# Altium schematic symbol library BSM-3_next_generation_Library.SchLib: 93 symbols
Pins are listed as number, name and electrical type; pins without a type are passive.

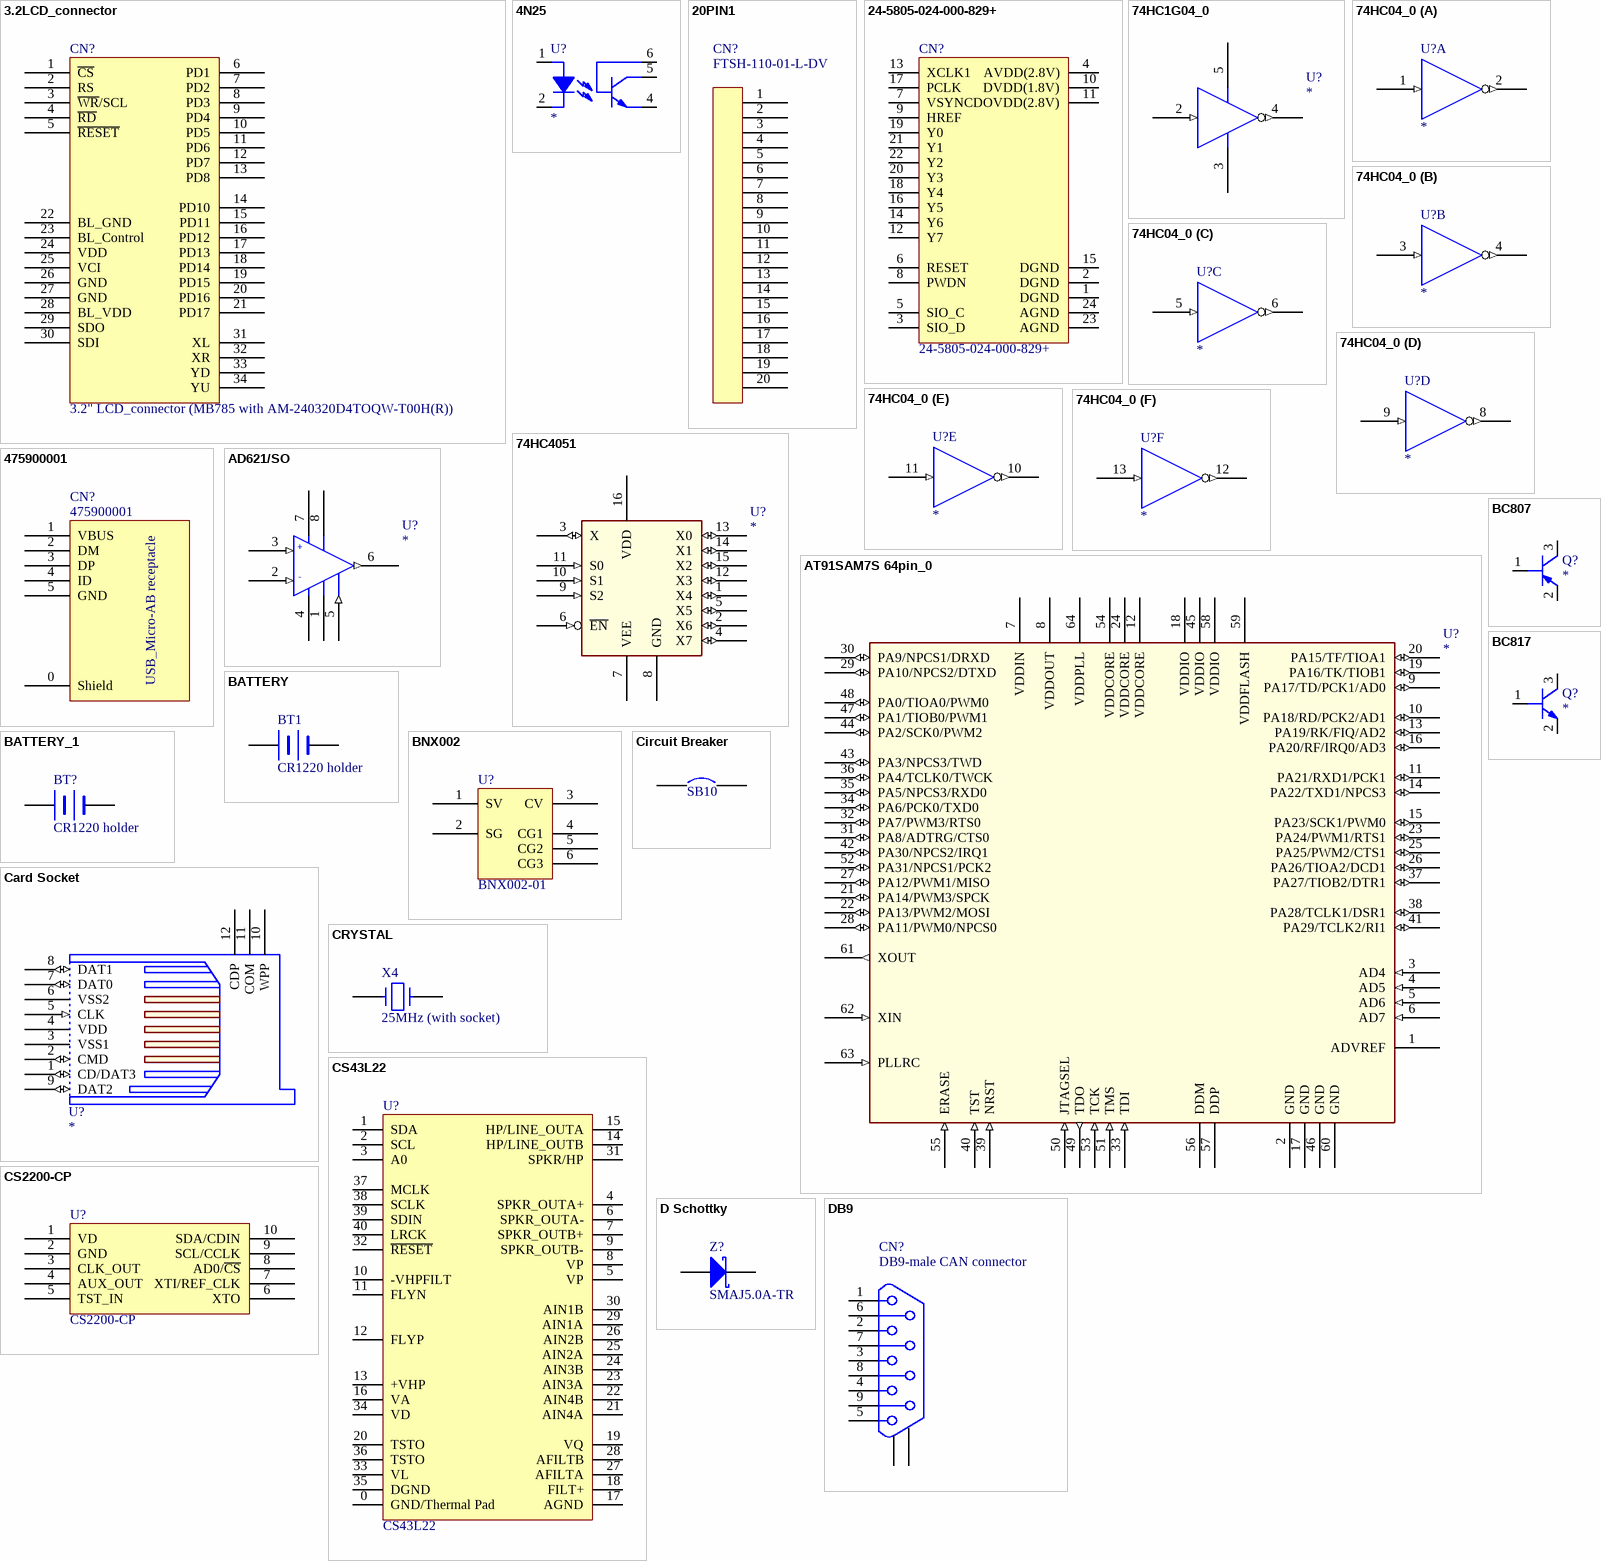
[diagram p0: symbols 3.2LCD_connector to DB9]

## 3.2LCD_connector
designator CN?, comment 3.2" LCD_connector (MB785 with AM-240320D4TOQW-T00H(R))
footprint Model Name (Footprint not found)
footprint AM240*320AA
pins: 1 ~{CS}, 2 RS, 3 ~{WR}/SCL, 4 ~{RD}, 5 ~{RESET}, 6 PD1, 7 PD2, 8 PD3, 9 PD4, 10 PD5, 11 PD6, 12 PD7, 13 PD8, 14 PD10, 15 PD11, 16 PD12, 17 PD13, 18 PD14, 19 PD15, 20 PD16, 21 PD17, 22 BL_GND, 23 BL_Control, 24 VDD, 25 VCI, 26 GND, 27 GND, 28 BL_VDD, 29 SDO, 30 SDI, 31 XL, 32 XR, 33 YD, 34 YU

## 4N25
designator U?
pins: 1, 2, 4, 5, 6

## 20PIN1
designator CN?, comment FTSH-110-01-L-DV
footprint IDC20L (Footprint not found)
footprint IDC20S
footprint FTSH-110-01-L-DV
pins: 1, 2, 3, 4, 5, 6, 7, 8, 9, 10, 11, 12, 13, 14, 15, 16, 17, 18, 19, 20
2 alternate drawings of the same symbol

## 24-5805-024-000-829+
designator CN?
footprint Model Name (Footprint not found)
footprint 24-5805-024-000-829
pins: 1 DGND, 2 DGND, 3 SIO_D, 4 AVDD(2.8V), 5 SIO_C, 6 RESET, 7 VSYNC, 8 PWDN, 9 HREF, 10 DVDD(1.8V), 11 DOVDD(2.8V), 12 Y7, 13 XCLK1, 14 Y6, 15 DGND, 16 Y5, 17 PCLK, 18 Y4, 19 Y0, 20 Y3, 21 Y1, 22 Y2, 23 AGND, 24 AGND

## 74HC1G04_0
designator U?
pins: 1 NC (power) hidden to NC, 2 A (in), 3 GND (power), 4 Y (out), 5 VCC (power)

## 74HC04_0
designator U?
part A pins: 1 A (in), 2 Y (out), 7 GND (power) hidden to GND, 14 VCC (power) hidden to VCC
part B pins: 3 A (in), 4 Y (out), 7 GND (power) hidden to GND, 14 VCC (power) hidden to VCC
part C pins: 5 A (in), 6 Y (out), 7 GND (power) hidden to GND, 14 VCC (power) hidden to VCC
part D pins: 7 GND (power) hidden to GND, 8 Y (out), 9 A (in), 14 VCC (power) hidden to VCC
part E pins: 7 GND (power) hidden to GND, 10 Y (out), 11 A (in), 14 VCC (power) hidden to VCC
part F pins: 7 GND (power) hidden to GND, 12 Y (out), 13 A (in), 14 VCC (power) hidden to VCC

## 74HC4051
designator U?
pins: 1 X4 (io), 2 X6 (io), 3 X (io), 4 X7 (io), 5 X5 (io), 6 ~{EN} (in), 7 VEE (power), 8 GND (power), 9 S2 (in), 10 S1 (in), 11 S0 (in), 12 X3 (io), 13 X0 (io), 14 X1 (io), 15 X2 (io), 16 VDD (power)

## 475900001
designator CN?
footprint Model Name (Footprint not found)
footprint USB-MICRO-AB
pins: 0 Shield, 1 VBUS, 2 DM, 3 DP, 4 ID, 5 GND
text: USB_Micro-AB receptacle

## AD621/SO
designator U?
pins: 1 G10/100, 2 -IN (in), 3 +IN (in), 4 -VCC (power), 5 REF (in), 6 OUT (out), 7 +VCC (power), 8 G10/100
text: +; -

## AT91SAM7S 64pin_0
designator U?
pins: 1 ADVREF (power), 2 GND (power), 3 AD4 (in), 4 AD5 (in), 5 AD6 (in), 6 AD7 (in), 7 VDDIN (power), 8 VDDOUT (power), 9 PA17/TD/PCK1/AD0 (io), 10 PA18/RD/PCK2/AD1 (io), 11 PA21/RXD1/PCK1 (io), 12 VDDCORE (power), 13 PA19/RK/FIQ/AD2 (io), 14 PA22/TXD1/NPCS3 (io), 15 PA23/SCK1/PWM0 (io), 16 PA20/RF/IRQ0/AD3 (io), 17 GND (power), 18 VDDIO (power), 19 PA16/TK/TIOB1 (io), 20 PA15/TF/TIOA1 (io), 21 PA14/PWM3/SPCK (io), 22 PA13/PWM2/MOSI (io), 23 PA24/PWM1/RTS1 (io), 24 VDDCORE (power), 25 PA25/PWM2/CTS1 (io), 26 PA26/TIOA2/DCD1 (io), 27 PA12/PWM1/MISO (io), 28 PA11/PWM0/NPCS0 (io), 29 PA10/NPCS2/DTXD (io), 30 PA9/NPCS1/DRXD (io), 31 PA8/ADTRG/CTS0 (io), 32 PA7/PWM3/RTS0 (io), 33 TDI (in), 34 PA6/PCK0/TXD0 (io), 35 PA5/NPCS3/RXD0 (io), 36 PA4/TCLK0/TWCK (io), 37 PA27/TIOB2/DTR1 (io), 38 PA28/TCLK1/DSR1 (io), 39 NRST (in), 40 TST (in), 41 PA29/TCLK2/RI1 (io), 42 PA30/NPCS2/IRQ1 (io), 43 PA3/NPCS3/TWD (io), 44 PA2/SCK0/PWM2 (io), 45 VDDIO (power), 46 GND (power), 47 PA1/TIOB0/PWM1 (io), 48 PA0/TIOA0/PWM0 (io), 49 TDO (out), 50 JTAGSEL (in), 51 TMS (in), 52 PA31/NPCS1/PCK2 (io), 53 TCK (in), 54 VDDCORE (power), 55 ERASE (in), 56 DDM, 57 DDP, 58 VDDIO (power), 59 VDDFLASH (power), 60 GND (power), 61 XOUT (out), 62 XIN (in), 63 PLLRC (in), 64 VDDPLL (power)

## BATTERY
designator BT1, comment CR1220 holder
Battery
footprint BATT (Footprint not found)
footprint LI1220_1
pins: 1 +, 2 -
2 alternate drawings of the same symbol

## BATTERY_1
designator BT?, comment CR1220 holder
Battery
footprint BATT (Footprint not found)
footprint LI1220_1
pins: 1 +, 2 -
2 alternate drawings of the same symbol

## BC807
designator Q?
pins: 1 B, 2 E, 3 C

## BC817
designator Q?
pins: 1 B, 2 E, 3 C

## BNX002
designator U?, comment BNX002-01
footprint BNX001 (Footprint not found)
pins: 1 SV, 2 SG, 3 CV, 4 CG1, 5 CG2, 6 CG3

## Card Socket
designator U?
pins: 1 CD/DAT3 (io), 2 CMD (io), 3 VSS1 (power), 4 VDD (power), 5 CLK (in), 6 VSS2 (power), 7 DAT0 (io), 8 DAT1 (io), 9 DAT2 (io), 10 WPP, 11 COM, 12 CDP

## Circuit Breaker
designator SB10
Circuit Breaker; Published: 24-Mar-1999; Revision: July-2002: Re-released for DXP Platform.; Publisher: Altium Limited
footprint SPST-2 (Circuit Breaker; 2 Leads)
footprint JP2_SMD
pins: 1, 2

## CRYSTAL
designator X4, comment 25MHz (with socket)
Crystal
footprint XTAL1 (Footprint not found)
footprint XTAL_socket
pins: 1, 2
2 alternate drawings of the same symbol

## CS43L22
designator U?
footprint QFN40 (Footprint not found)
footprint QFN40(6*6)
pins: 0 GND/Thermal Pad, 1 SDA, 2 SCL, 3 A0, 4 SPKR_OUTA+, 5 VP, 6 SPKR_OUTA-, 7 SPKR_OUTB+, 8 VP, 9 SPKR_OUTB-, 10 -VHPFILT, 11 FLYN, 12 FLYP, 13 +VHP, 14 HP/LINE_OUTB, 15 HP/LINE_OUTA, 16 VA, 17 AGND, 18 FILT+, 19 VQ, 20 TSTO, 21 AIN4A, 22 AIN4B, 23 AIN3A, 24 AIN3B, 25 AIN2A, 26 AIN2B, 27 AFILTA, 28 AFILTB, 29 AIN1A, 30 AIN1B, 31 SPKR/HP, 32 ~{RESET}, 33 VL, 34 VD, 35 DGND, 36 TSTO, 37 MCLK, 38 SCLK, 39 SDIN, 40 LRCK

## CS2200-CP
designator U?
pins: 1 VD, 2 GND, 3 CLK_OUT, 4 AUX_OUT, 5 TST_IN, 6 XTO, 7 XTI/REF_CLK, 8 AD0/~{CS}, 9 SCL/CCLK, 10 SDA/CDIN

## D Schottky
designator Z?, comment SMAJ5.0A-TR
Schottky Diode; Code - JEDEC: DO-214-AA; Published: 8-Jun-2000; Revision: July-2002: Re-released for DXP Platform.; Publisher: Altium Limited
footprint 1R1C (Footprint not found)
pins: 1 A, 2 K

## DB9
designator CN?, comment DB9-male CAN connector
footprint DB9/M (Footprint not found)
pins: 0, 0 10, 1, 2, 3, 4, 5, 6, 7, 8, 9
2 alternate drawings of the same symbol

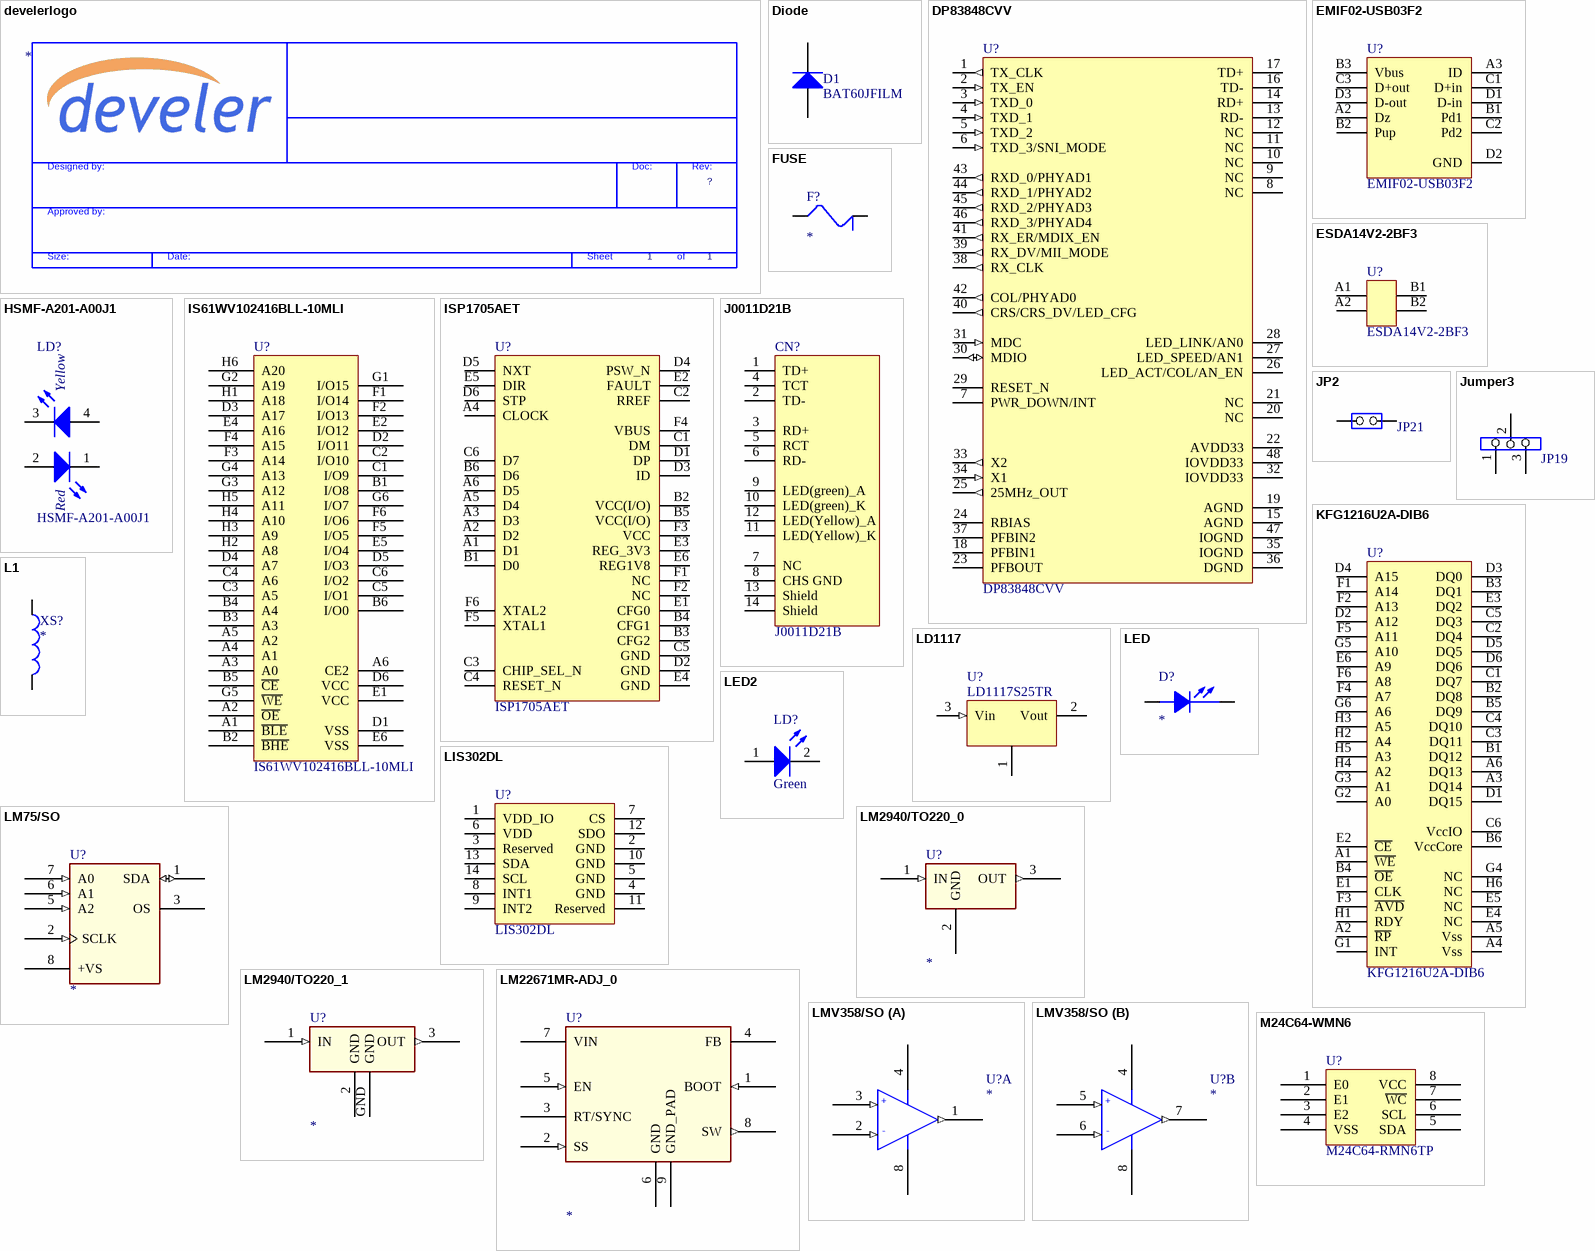
[diagram p1: symbols develerlogo to M24C64-WMN6]

## develerlogo
designator *  Page Count: 1  (graphical)
Page Number: 1; RevCode: ?
text: Designed by:; Doc:; Rev:; Approved by:; Size:; Date:; Sheet; of

## Diode
designator D1, comment BAT60JFILM
Default Diode; Code - JEDEC: DO-214-AB; Published: 8-Jun-2000; Revision: July-2002: Re-released for DXP Platform.; Publisher: Altium Limited
footprint DSO-C2/X3.3 (DO-214-AB/SMC; 2 C-Bend Leads; Body 7.9 x 5.9 mm, inc. leads (LxW))
simulation model DIODE (Diode)
signal-integrity model Diode
footprint SOD-323
pins: 1 A, 2 K

## DP83848CVV
designator U?
footprint LQFP48 (Footprint not found)
pins: 1 TX_CLK (out), 2 TX_EN (in), 3 TXD_0 (in), 4 TXD_1 (in), 5 TXD_2 (in), 6 TXD_3/SNI_MODE (in), 7 PWR_DOWN/INT, 8 NC, 9 NC, 10 NC, 11 NC, 12 NC, 13 RD-, 14 RD+, 15 AGND, 16 TD-, 17 TD+, 18 PFBIN1, 19 AGND, 20 NC, 21 NC, 22 AVDD33, 23 PFBOUT, 24 RBIAS, 25 25MHz_OUT (out), 26 LED_ACT/COL/AN_EN, 27 LED_SPEED/AN1, 28 LED_LINK/AN0, 29 RESET_N, 30 MDIO (io), 31 MDC (in), 32 IOVDD33, 33 X2 (out), 34 X1 (in), 35 IOGND, 36 DGND, 37 PFBIN2, 38 RX_CLK (out), 39 RX_DV/MII_MODE (out), 40 CRS/CRS_DV/LED_CFG (out), 41 RX_ER/MDIX_EN (out), 42 COL/PHYAD0 (out), 43 RXD_0/PHYAD1 (out), 44 RXD_1/PHYAD2 (out), 45 RXD_2/PHYAD3 (out), 46 RXD_3/PHYAD4 (out), 47 IOGND, 48 IOVDD33

## EMIF02-USB03F2
designator U?
footprint Flip Chip (Footprint not found)
footprint FlipChip(11)
pins: A2 Dz, A3 ID, B1 Pd1, B2 Pup, B3 Vbus, C1 D+in, C2 Pd2, C3 D+out, D1 D-in, D2 GND, D3 D-out

## ESDA14V2-2BF3
designator U?
pins: A1, A2, B1, B2

## FUSE
designator F?
pins: 1, 2

## HSMF-A201-A00J1
designator LD?
pins: 1 RED_cathode, 2 Red_anode, 3 YellowGreen_cathode, 4 YellowGreen_anode
text: Yellow; Red

## IS61WV102416BLL-10MLI
designator U?
footprint miniBAG48(9x11) (Footprint not found)
footprint FBGA48(9*11)
pins: A1 ~{BLE}, A2 ~{OE}, A3 A0, A4 A1, A5 A2, A6 CE2, B1 I/O8, B2 ~{BHE}, B3 A3, B4 A4, B5 ~{CE}, B6 I/O0, C1 I/O9, C2 I/O10, C3 A5, C4 A6, C5 I/O1, C6 I/O2, D1 VSS, D2 I/O11, D3 A17, D4 A7, D5 I/O3, D6 VCC, E1 VCC, E2 I/O12, E4 A16, E5 I/O4, E6 VSS, F1 I/O14, F2 I/O13, F3 A14, F4 A15, F5 I/O5, F6 I/O6, G1 I/O15, G2 A19, G3 A12, G4 A13, G5 ~{WE}, G6 I/O7, H1 A18, H2 A8, H3 A9, H4 A10, H5 A11, H6 A20

## ISP1705AET
designator U?
footprint TFBGA36 (Footprint not found)
pins: A1 D1, A2 D2, A3 D3, A4 CLOCK, A5 D4, A6 D5, B1 D0, B2 VCC(I/O), B3 CFG2, B4 CFG1, B5 VCC(I/O), B6 D6, C1 DM, C2 RREF, C3 CHIP_SEL_N, C4 RESET_N, C5 GND, C6 D7, D1 DP, D2 GND, D3 ID, D4 PSW_N, D5 NXT, D6 STP, E1 CFG0, E2 FAULT, E3 REG_3V3, E4 GND, E5 DIR, E6 REG1V8, F1 NC, F2 NC, F3 VCC, F4 VBUS, F5 XTAL1, F6 XTAL2

## J0011D21B
designator CN?
footprint Model Name (Footprint not found)
footprint J0011D21B
pins: 1 TD+, 2 TD-, 3 RD+, 4 TCT, 5 RCT, 6 RD-, 7 NC, 8 CHS GND, 9 LED(green)_A, 10 LED(green)_K, 11 LED(Yellow)_K, 12 LED(Yellow)_A, 13 Shield, 14 Shield

## JP2
designator JP21
footprint SIP2 (Footprint not found)
pins: 1 COMMON, 2 NO

## Jumper3
designator JP19
footprint SIP3 (Footprint not found)
pins: 1, 2, 3

## KFG1216U2A-DIB6
designator U?
footprint FBGA63 (Footprint not found)
footprint FBGA63(9.5*12)
pins: A1 ~{WE}, A2 ~{RP}, A3 DQ14, A4 Vss, A5 Vss, A6 DQ13, B1 DQ12, B2 DQ8, B3 DQ1, B4 ~{OE}, B5 DQ9, B6 VccCore, C1 DQ7, C2 DQ4, C3 DQ11, C4 DQ10, C5 DQ3, C6 VccIO, D1 DQ15, D2 A12, D3 DQ0, D4 A15, D5 DQ5, D6 DQ6, E1 CLK, E2 ~{CE}, E3 DQ2, E4 NC, E5 NC, E6 A9, F1 A14, F2 A13, F3 ~{AVD}, F4 A7, F5 A11, F6 A8, G1 INT, G2 A0, G3 A1, G4 NC, G5 A10, G6 A6, H1 RDY, H2 A4, H3 A5, H4 A2, H5 A3, H6 NC

## L1
designator XS?
pins: 1, 2

## LD1117
designator U?, comment LD1117S25TR
footprint SOT-223
pins: 1, 2 Vout (power), 3 Vin (in)
2 alternate drawings of the same symbol

## LED
designator D?
pins: 1 ANODE, 2 CATHODE

## LED2
designator LD?, comment Green
Typical RED, GREEN, YELLOW, AMBER GaAs LED; Published: 8-Jun-2000; Revision: July-2002: Re-released for DXP Platform.; Publisher: Altium Limited
footprint D0603 (Footprint not found)
footprint 0603D
pins: 1 A, 2 K

## LIS302DL
designator U?
footprint Model Name (Footprint not found)
footprint LGA14(3*5)
pins: 1 VDD_IO, 2 GND, 3 Reserved, 4 GND, 5 GND, 6 VDD, 7 CS, 8 INT1, 9 INT2, 10 GND, 11 Reserved, 12 SDO, 13 SDA, 14 SCL

## LM75/SO
designator U?
pins: 1 SDA (io), 2 SCLK (in), 3 OS (oc), 4 GND (power) hidden to GND, 5 A2 (in), 6 A1 (in), 7 A0 (in), 8 +VS (power)

## LM2940/TO220_0
designator U?
pins: 1 IN (in), 2 GND (power), 3 OUT (out)

## LM2940/TO220_1
designator U?
pins: 1 IN (in), 2 GND (power), 3 OUT (out), GND

## LM22671MR-ADJ_0
designator U?
pins: 1 BOOT (in), 2 SS (in), 3 RT/SYNC, 4 FB, 5 EN (in), 6 GND (power), 7 VIN (power), 8 SW (out), 9 GND_PAD

## LMV358/SO
designator U?
part A pins: 1 OUTPUT (out), 2 -VIN (in), 3 +VIN (in), 4 -VCC (power), 8 +VCC (power)
part B pins: 4 -VCC (power), 5 +VIN (in), 6 -VIN (in), 7 OUTPUT (out), 8 +VCC (power)
part A text: +; -
part B text: +; -

## M24C64-WMN6
designator U?, comment M24C64-RMN6TP
footprint SO8 (Footprint not found)
pins: 1 E0, 2 E1, 3 E2, 4 VSS, 5 SDA, 6 SCL, 7 ~{WC}, 8 VCC

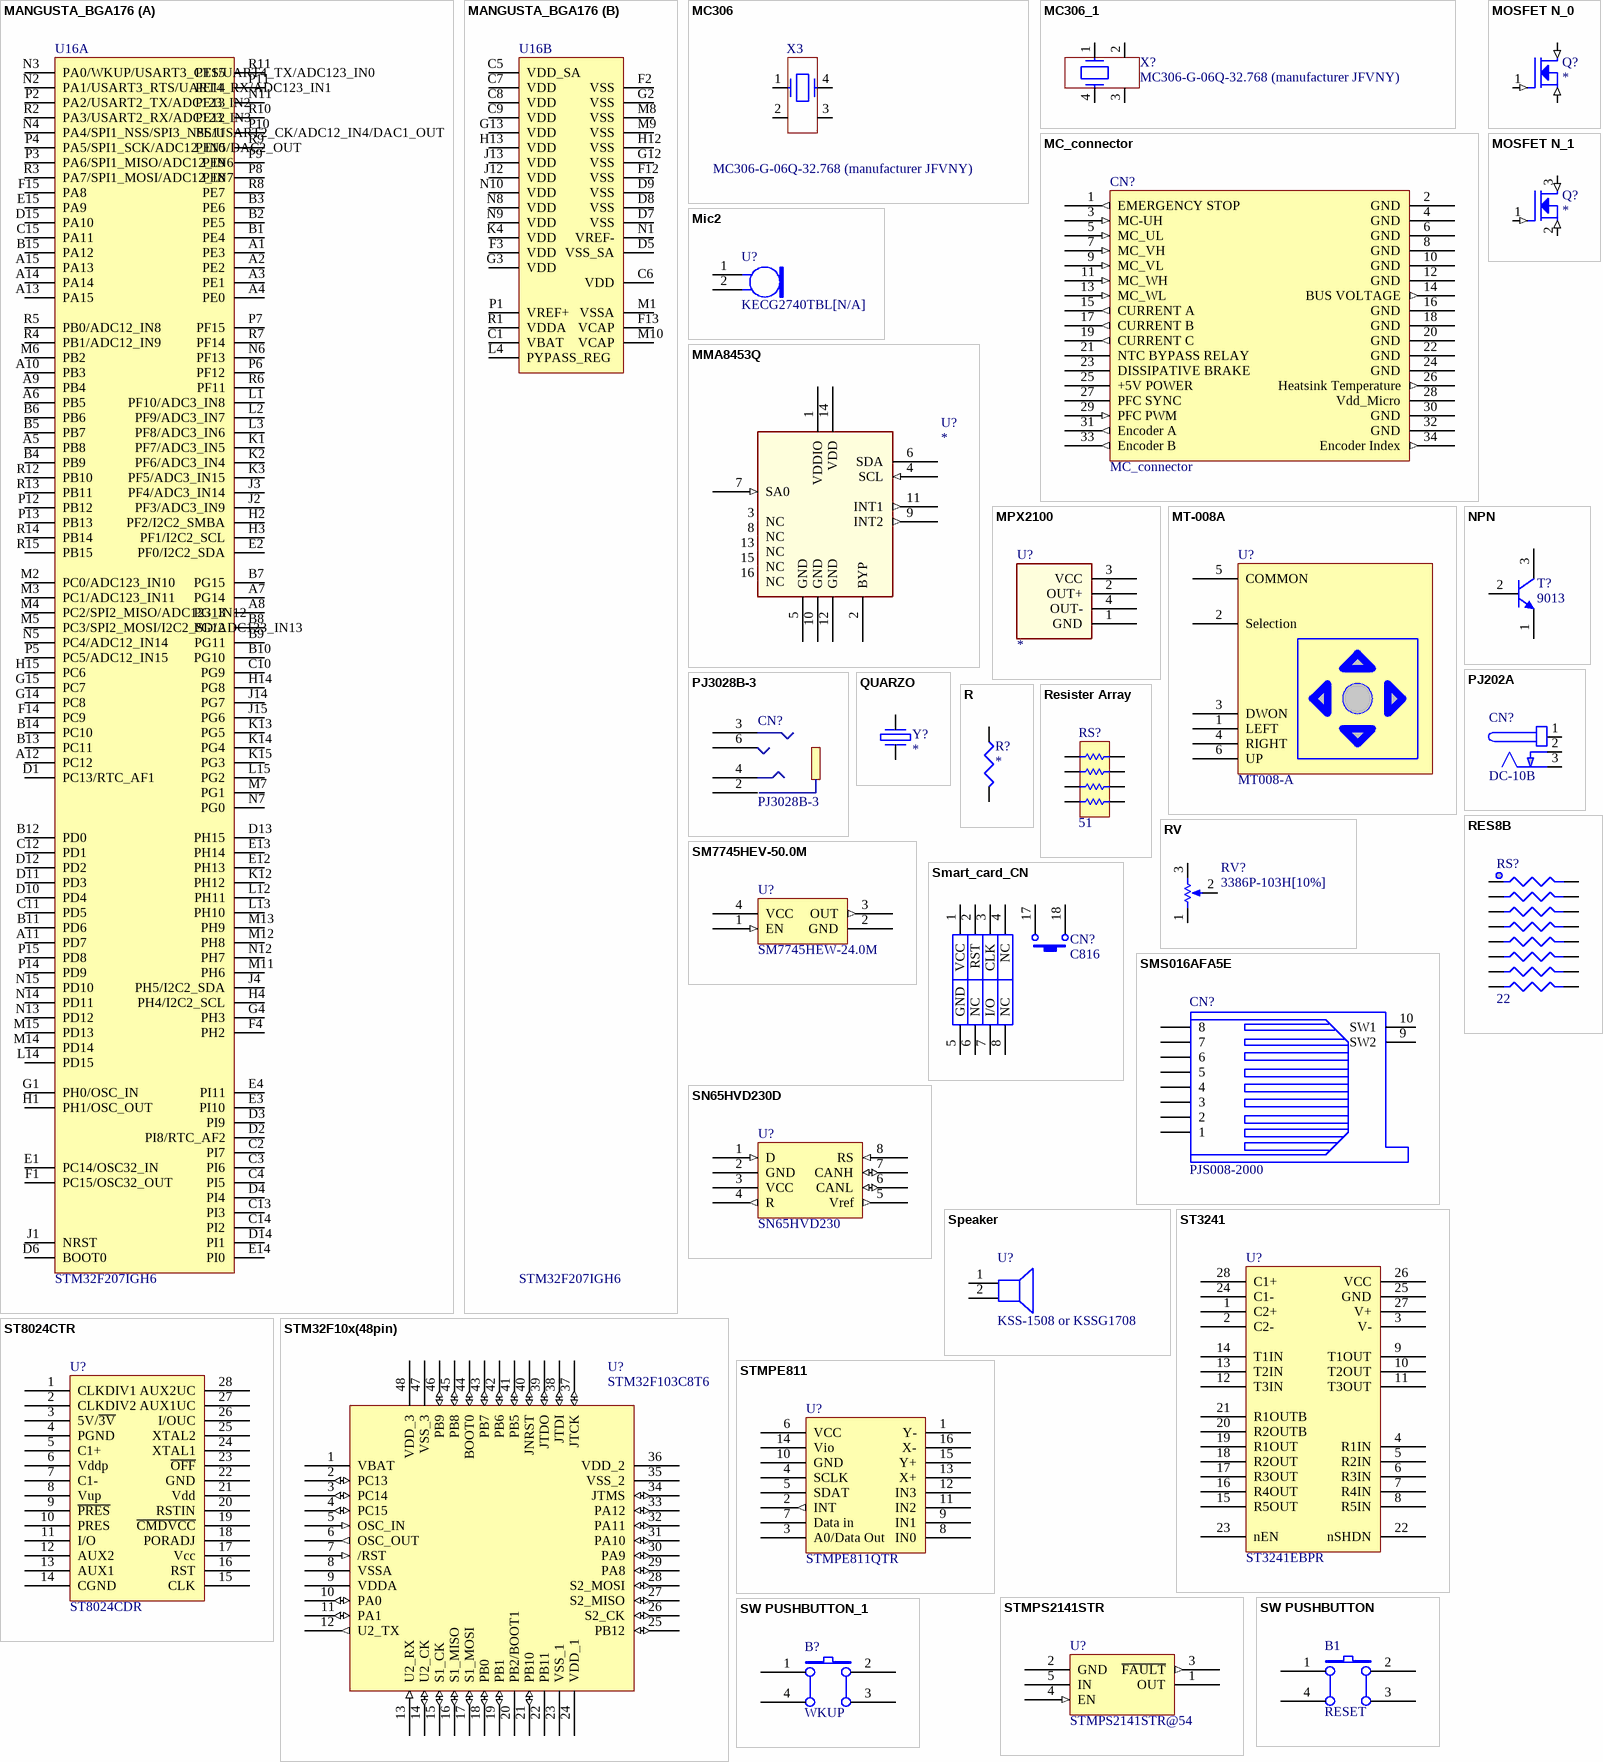
[diagram p2: symbols MANGUSTA_BGA176 to SW PUSHBUTTON_1]

## MANGUSTA_BGA176
designator U16, comment STM32F207IGH6
footprint UFBGA176 (Footprint not found)
part A pins: A1 PE3, A2 PE2, A3 PE1, A4 PE0, A5 PB8, A6 PB5, A7 PG14, A8 PG13, A9 PB4, A10 PB3, A11 PD7, A12 PC12, A13 PA15, A14 PA14, A15 PA13, B1 PE4, B2 PE5, B3 PE6, B4 PB9, B5 PB7, B6 PB6, B7 PG15, B8 PG12, B9 PG11, B10 PG10, B11 PD6, B12 PD0, B13 PC11, B14 PC10, B15 PA12, C2 PI7, C3 PI6, C4 PI5, C10 PG9, C11 PD5, C12 PD1, C13 PI3, C14 PI2, C15 PA11, D1 PC13/RTC_AF1, D2 PI8/RTC_AF2, D3 PI9, D4 PI4, D6 BOOT0, D10 PD4, D11 PD3, D12 PD2, D13 PH15, D14 PI1, D15 PA10, E1 PC14/OSC32_IN, E2 PF0/I2C2_SDA, E3 PI10, E4 PI11, E12 PH13, E13 PH14, E14 PI0, E15 PA9, F1 PC15/OSC32_OUT, F4 PH2, F14 PC9, F15 PA8, G1 PH0/OSC_IN, G4 PH3, G14 PC8, G15 PC7, H1 PH1/OSC_OUT, H2 PF2/I2C2_SMBA, H3 PF1/I2C2_SCL, H4 PH4/I2C2_SCL, H14 PG8, H15 PC6, J1 NRST, J2 PF3/ADC3_IN9, J3 PF4/ADC3_IN14, J4 PH5/I2C2_SDA, J14 PG7, J15 PG6, K1 PF7/ADC3_IN5, K2 PF6/ADC3_IN4, K3 PF5/ADC3_IN15, K12 PH12, K13 PG5, K14 PG4, K15 PG3, L1 PF10/ADC3_IN8, L2 PF9/ADC3_IN7, L3 PF8/ADC3_IN6, L12 PH11, L13 PH10, L14 PD15, L15 PG2, M2 PC0/ADC123_IN10, M3 PC1/ADC123_IN11, M4 PC2/SPI2_MISO/ADC123_IN12, M5 PC3/SPI2_MOSI/I2C2_SD/ADC123_IN13, M6 PB2, M7 PG1, M11 PH6, M12 PH8, M13 PH9, M14 PD14, M15 PD13, N2 PA1/USART3_RTS/UART4_RX/ADC123_IN1, N3 PA0/WKUP/USART3_CTS/UART4_TX/ADC123_IN0, N4 PA4/SPI1_NSS/SPI3_NSS/USART2_CK/ADC12_IN4/DAC1_OUT, N5 PC4/ADC12_IN14, N6 PF13, N7 PG0, N11 PE13, N12 PH7, N13 PD12, N14 PD11, N15 PD10, P2 PA2/USART2_TX/ADC123_IN2, P3 PA6/SPI1_MISO/ADC12_IN6, P4 PA5/SPI1_SCK/ADC12_IN5/DAC2_OUT, P5 PC5/ADC12_IN15, P6 PF12, P7 PF15, P8 PE8, P9 PE9, P10 PE11, P11 PE14, P12 PB12, P13 PB13, P14 PD9, P15 PD8, R2 PA3/USART2_RX/ADC123_IN3, R3 PA7/SPI1_MOSI/ADC12_IN7, R4 PB1/ADC12_IN9, R5 PB0/ADC12_IN8, R6 PF11, R7 PF14, R8 PE7, R9 PE10, R10 PE12, R11 PE15, R12 PB10, R13 PB11, R14 PB14, R15 PB15
part B pins: C1 VBAT, C5 VDD_SA, C6 VDD, C7 VDD, C8 VDD, C9 VDD, D5 VSS_SA, D7 VSS, D8 VSS, D9 VSS, F2 VSS, F3 VDD, F12 VSS, F13 VCAP, G2 VSS, G3 VDD, G12 VSS, G13 VDD, H12 VSS, H13 VDD, J12 VDD, J13 VDD, K4 VDD, L4 PYPASS_REG, M1 VSSA, M8 VSS, M9 VSS, M10 VCAP, N1 VREF-, N8 VDD, N9 VDD, N10 VDD, P1 VREF+, R1 VDDA

## MC306
designator X3, comment MC306-G-06Q-32.768 (manufacturer JFVNY)
footprint SM8 (Footprint not found)
pins: 1, 2, 3, 4

## MC306_1
designator X?, comment MC306-G-06Q-32.768 (manufacturer JFVNY)
footprint SM8 (Footprint not found)
pins: 1, 2, 3, 4

## MC_connector
designator CN?
footprint IDC34S (Footprint not found)
pins: 1 EMERGENCY STOP (out), 2 GND (power), 3 MC-UH (in), 4 GND (power), 5 MC_UL (in), 6 GND (power), 7 MC_VH (in), 8 GND (power), 9 MC_VL (in), 10 GND (power), 11 MC_WH (in), 12 GND (power), 13 MC_WL (in), 14 BUS VOLTAGE (out), 15 CURRENT A (out), 16 GND (power), 17 CURRENT B (out), 18 GND (power), 19 CURRENT C (out), 20 GND (power), 21 NTC BYPASS RELAY, 22 GND (power), 23 DISSIPATIVE BRAKE, 24 GND (power), 25 +5V POWER (power), 26 Heatsink Temperature (out), 27 PFC SYNC, 28 Vdd_Micro (power), 29 PFC PWM (in), 30 GND (power), 31 Encoder A (out), 32 GND (power), 33 Encoder B (out), 34 Encoder Index (out)

## Mic2
designator U?, comment KECG2740TBL[N/A]
Microphone; Published: 24-Mar-1999; Revision: July-2002: Re-released for DXP Platform.; Publisher: Altium Limited
footprint KEC2740 (Footprint not found)
pins: 1, 2

## MMA8453Q
designator U?
pins: 1 VDDIO (power), 2 BYP, 3 NC, 4 SCL (in), 5 GND (power), 6 SDA (oc), 7 SA0 (in), 8 NC, 9 INT2 (out), 10 GND (power), 11 INT1 (out), 12 GND (power), 13 NC, 14 VDD (power), 15 NC, 16 NC

## MOSFET N_0
designator Q?
pins: 1 G (in), 2 (in), 3 (in)

## MOSFET N_1
designator Q?
pins: 1 G (in), 2 S (in), 3 D (in)

## MPX2100
designator U?
pins: 1 GND (power), 2 OUT+, 3 VCC (power), 4 OUT-

## MT-008A
designator U?, comment MT008-A
footprint JOY (Footprint not found)
pins: 1 LEFT, 2 Selection, 3 DWON, 4 RIGHT, 5 COMMON, 6 UP

## NPN
designator T?, comment 9013
NPN Bipolar Transistor; Code - JEDEC: TO-226-AA; Published: 8-Jun-2000; Revision: July-2002: Re-released for DXP Platform.; Publisher: Altium Limited
footprint BCY-W3 (TO, Flat Index; 3 In-Line, Axial Leads; Body Dia. 4.8mm)
simulation model NPN
signal-integrity model NPN
footprint SOT-23
pins: 1 E, 2 B, 3 C

## PJ202A
designator CN?, comment DC-10B
footprint DC10B (Footprint not found)
pins: 1 +, 2 GND, 3 GND

## PJ3028B-3
designator CN?
pins: 2, 3, 4, 6

## QUARZO
designator Y?
pins: 1, 2

## R
designator R?
pins: 1, 2

## RES8B
designator RS?, comment 22
footprint RES8B_0402
pins: 1, 2, 3, 4, 5, 6, 7, 8, 9, 10, 11, 12, 13, 14, 15, 16

## Resister Array
designator RS?, comment 51
footprint Model Name (Footprint not found)
footprint RES4B
pins: 1, 2, 3, 4, 5, 6, 7, 8

## RV
designator RV?, comment 3386P-103H[10%]
footprint ADJRH (Footprint not found)
footprint 3296W
pins: 1 TOP, 2 TAP, 3 BOT

## SM7745HEV-50.0M
designator U?, comment SM7745HEW-24.0M
footprint Model Name (Footprint not found)
footprint XTAL_5X7
pins: 1 EN (in), 2 GND, 3 OUT (out), 4 VCC

## Smart_card_CN
designator CN?, comment C816
footprint SAM(C816) (Footprint not found)
pins: 1 VCC, 2 RST, 3 CLK, 4 NC, 5 GND, 6 NC, 7 I/O, 8 NC, 17, 18

## SMS016AFA5E
designator CN?, comment PJS008-2000
footprint MSD(PJS008) (Footprint not found)
pins: 1, 2, 3, 4, 5, 6, 7, 8, 9 SW2, 10 SW1

## SN65HVD230D
designator U?, comment SN65HVD230
footprint SO8 (Small Outline; 8 Leads; Body Width 3.9 mm; Pitch 1.27 mm)
pins: 1 D (in), 2 GND (power), 3 VCC (power), 4 R (out), 5 Vref (out), 6 CANL (io), 7 CANH (io), 8 RS (in)

## Speaker
designator U?, comment KSS-1508 or KSSG1708
Loudspeaker; Published: 24-Mar-1999; Revision: July-2002: Re-released for DXP Platform.; Publisher: Altium Limited
footprint KS1508 (Footprint not found)
footprint KS1708
pins: 1 +, 2 -

## ST3241
designator U?, comment ST3241EBPR
footprint SSOP28 (Footprint not found)
pins: 1 C2+, 2 C2-, 3 V-, 4 R1IN, 5 R2IN, 6 R3IN, 7 R4IN, 8 R5IN, 9 T1OUT, 10 T2OUT, 11 T3OUT, 12 T3IN, 13 T2IN, 14 T1IN, 15 R5OUT, 16 R4OUT, 17 R3OUT, 18 R2OUT, 19 R1OUT, 20 R2OUTB, 21 R1OUTB, 22 nSHDN, 23 nEN, 24 C1-, 25 GND, 26 VCC, 27 V+, 28 C1+
2 alternate drawings of the same symbol

## ST8024CTR
designator U?, comment ST8024CDR
footprint SO28 (Footprint not found)
pins: 1 CLKDIV1, 2 CLKDIV2, 3 5V/~{3V}, 4 PGND, 5 C1+, 6 Vddp, 7 C1-, 8 Vup, 9 ~{PRES}, 10 PRES, 11 I/O, 12 AUX2, 13 AUX1, 14 CGND, 15 CLK, 16 RST, 17 Vcc, 18 PORADJ, 19 ~{CMDVCC}, 20 RSTIN, 21 Vdd, 22 GND, 23 ~{OFF}, 24 XTAL1, 25 XTAL2, 26 I/OUC, 27 AUX1UC, 28 AUX2UC

## STM32F10x(48pin)
designator U?, comment STM32F103C8T6
footprint TQ48
footprint LQFP48
pins: 1 VBAT (power), 2 PC13 (io), 3 PC14 (io), 4 PC15 (io), 5 OSC_IN (in), 6 OSC_OUT (out), 7 /RST (in), 8 VSSA, 9 VDDA (power), 10 PA0 (io), 11 PA1 (io), 12 U2_TX (out), 13 U2_RX (in), 14 U2_CK (io), 15 S1_CK (io), 16 S1_MISO (io), 17 S1_MOSI (io), 18 PB0 (io), 19 PB1 (io), 20 PB2/BOOT1, 21 PB10 (io), 22 PB11, 23 VSS_1, 24 VDD_1 (power), 25 PB12 (io), 26 S2_CK (io), 27 S2_MISO (io), 28 S2_MOSI (io), 29 PA8 (io), 30 PA9 (io), 31 PA10 (io), 32 PA11 (io), 33 PA12 (io), 34 JTMS (io), 35 VSS_2, 36 VDD_2 (power), 37 JTCK (io), 38 JTDI (io), 39 JTDO (io), 40 JNRST (io), 41 PB5 (io), 42 PB6 (io), 43 PB7 (io), 44 BOOT0 (io), 45 PB8 (io), 46 PB9 (io), 47 VSS_3, 48 VDD_3 (power)
2 alternate drawings of the same symbol

## STMPE811
designator U?, comment STMPE811QTR
footprint QFN16 (Footprint not found)
footprint QFN16(3X3)
pins: 1 Y-, 2 INT (out), 3 A0/Data Out, 4 SCLK, 5 SDAT, 6 VCC, 7 Data in, 8 IN0, 9 IN1, 10 GND, 11 IN2, 12 IN3, 13 X+, 14 Vio, 15 Y+, 16 X-

## STMPS2141STR
designator U?, comment STMPS2141STR@54
footprint SOT23-5L (Footprint not found)
footprint SOT-23-5L
pins: 1 OUT, 2 GND, 3 ~{FAULT} (out), 4 EN (in), 5 IN

## SW PUSHBUTTON
designator B1, comment RESET
SE PUSHBUTTON
footprint PB (Footprint not found)
footprint PB10
pins: 1 A0, 2 B0, 3 B1, 4 A1

## SW PUSHBUTTON_1
designator B?, comment WKUP
SE PUSHBUTTON
footprint PB (Footprint not found)
footprint PB10
pins: 1 A0, 2 B0, 3 B1, 4 A1

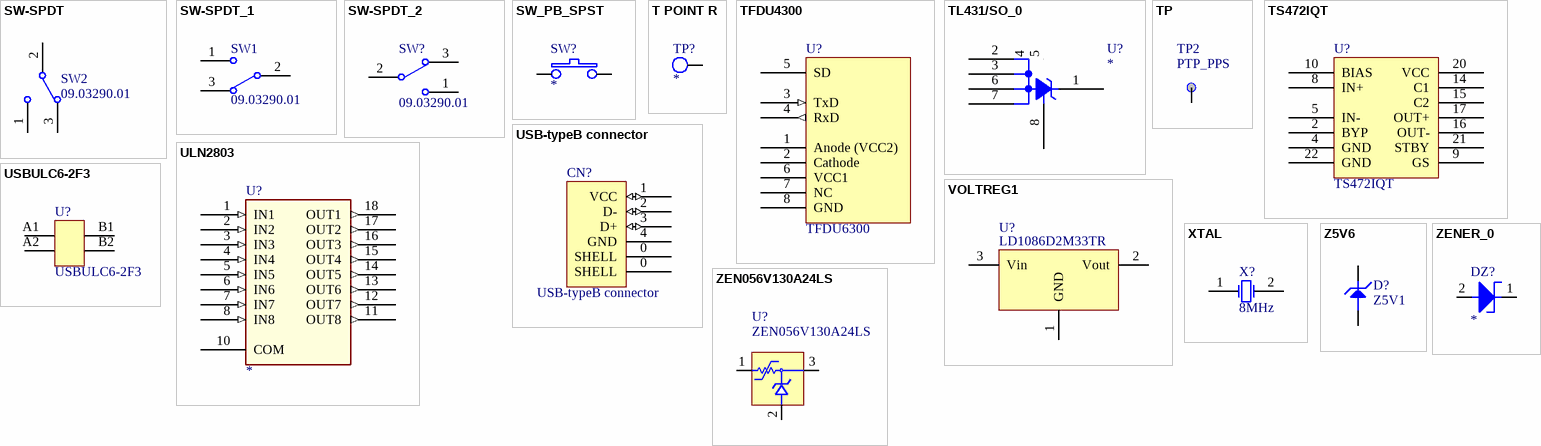
[diagram p3: symbols SW-SPDT to ZENER_0]

## SW-SPDT
designator SW2, comment 09.03290.01
SPDT Subminiature Toggle Switch, Right Angle Mounting, Vertical Actuation; Revision 1: Jul-2002: Re-released for DXP Platform.; Revision 2: 17-Dec-2003: Schematic revised, PCB Footprint replaced.; Published: 24-Mar-1999; Datasheet: Latest Revision: 05-Dec-2000; Publisher: Altium Limited
footprint SIP3 (Footprint not found)
pins: 1, 2, 3

## SW-SPDT_1
designator SW1, comment 09.03290.01
SPDT Subminiature Toggle Switch, Right Angle Mounting, Vertical Actuation; Revision 1: Jul-2002: Re-released for DXP Platform.; Revision 2: 17-Dec-2003: Schematic revised, PCB Footprint replaced.; Published: 24-Mar-1999; Datasheet: Latest Revision: 05-Dec-2000; Publisher: Altium Limited
footprint SIP3 (Footprint not found)
pins: 1, 2, 3

## SW-SPDT_2
designator SW?, comment 09.03290.01
SPDT Subminiature Toggle Switch, Right Angle Mounting, Vertical Actuation; Revision 1: Jul-2002: Re-released for DXP Platform.; Revision 2: 17-Dec-2003: Schematic revised, PCB Footprint replaced.; Published: 24-Mar-1999; Datasheet: Latest Revision: 05-Dec-2000; Publisher: Altium Limited
footprint SIP3 (Footprint not found)
pins: 1, 2, 3

## SW_PB_SPST
designator SW?
pins: 1, 2

## T POINT R
designator TP?
pins: 1 TP

## TFDU4300
designator U?, comment TFDU6300
TFDU4300
footprint IR_VISHAY3 (Footprint not found)
pins: 1 Anode (VCC2), 2 Cathode, 3 TxD (in), 4 RxD (out), 5 SD, 6 VCC1, 7 NC, 8 GND
2 alternate drawings of the same symbol

## TL431/SO_0
designator U?
pins: 1 K, 2 A, 3 A, 4 NC, 5 NC, 6 A, 7 A, 8 REF

## TP
designator TP2, comment PTP_PPS
footprint TP (Footprint not found)
pins: 1

## TS472IQT
designator U?
footprint QFN24 (Footprint not found)
footprint QFN24(4X4)
pins: 2 BYP, 4 GND, 5 IN-, 8 IN+, 9 GS, 10 BIAS, 14 C1, 15 C2, 16 OUT-, 17 OUT+, 20 VCC, 21 STBY, 22 GND

## ULN2803
designator U?
pins: 1 IN1 (in), 2 IN2 (in), 3 IN3 (in), 4 IN4 (in), 5 IN5 (in), 6 IN6 (in), 7 IN7 (in), 8 IN8 (in), 9 GND (power) hidden to GND, 10 COM, 11 OUT8 (out), 12 OUT7 (out), 13 OUT6 (out), 14 OUT5 (out), 15 OUT4 (out), 16 OUT3 (out), 17 OUT2 (out), 18 OUT1 (out)

## USB-typeB connector
designator CN?
footprint USB/B MINI
footprint USB-B
pins: 0 SHELL (power), 0 SHELL (power), 1 VCC (io), 2 D- (io), 3 D+ (io), 4 GND
2 alternate drawings of the same symbol

## USBULC6-2F3
designator U?
pins: A1, A2, B1, B2

## VOLTREG1
designator U?, comment LD1086D2M33TR
footprint D2PAK/A (Footprint not found)
pins: 1 GND, 2 Vout, 3 Vin
2 alternate drawings of the same symbol

## XTAL
designator X?, comment 8MHz
Crystal Oscillator; Published: 8-Jun-2000; LatestRevisionDate: 17-Jul-2002; LatestRevisionNote: Re-released for DXP Platform.; PackageReference: R38; Publisher: Altium Limited
footprint R38
footprint XTAL1
footprint SMT_XTAL
pins: 1 OSC1, 2 OSC2
2 alternate drawings of the same symbol

## Z5V6
designator D?, comment Z5V1
footprint SOT-23
pins: 2, 3

## ZEN056V130A24LS
designator U?
footprint polyzen (Footprint not found)
pins: 1, 2, 3

## ZENER_0
designator DZ?
pins: 1, 2